# EAGLE library part 8PIN (library Connectors)
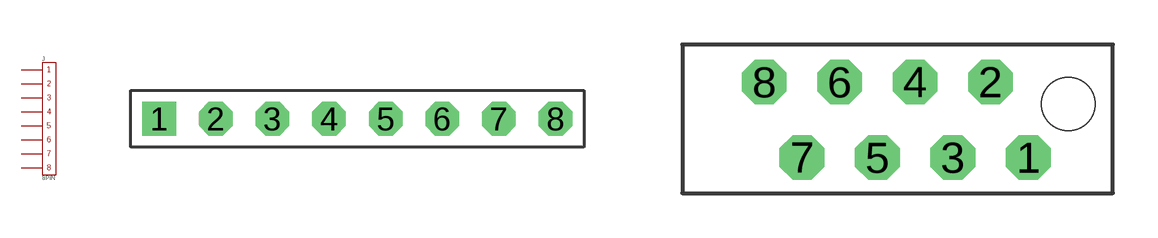
[diagram p2: symbol with the pads of 8PIN_HEADER_PITCH2.54MM_TH; footprints 8PIN_HEADER_PITCH2.54MM_TH, 8PIN_RIBBONCABLE_2ROW_2.54PITCH_TH]

Designator prefix J

## 8PIN_HEADER_PITCH2.54MM_TH  [8PIN_HEADER_PITCH2.54MM_TH]
1  1  pas
2  2  pas
3  3  pas
4  4  pas
5  5  pas
6  6  pas
7  7  pas
8  8  pas

## 8PIN_RIBBONCABLE_PITCH2.54MM_TH  [8PIN_RIBBONCABLE_2ROW_2.54PITCH_TH]
Pads as for 8PIN_HEADER_PITCH2.54MM_TH

## Footprint 8PIN_HEADER_PITCH2.54MM_TH (pad centres in mm)
drill 1 square: 1 -8.89,0
drill 1 octagon: 2 -6.35,0; 3 -3.81,0; 4 -1.27,0; 5 1.27,0; 6 3.81,0; 7 6.35,0; 8 8.89,0

## Footprint 8PIN_RIBBONCABLE_2ROW_2.54PITCH_TH (pad centres in mm)
drill 1 octagon: 1 -1.35,-1.8; 2 -2.62,0.74; 3 -3.89,-1.8; 4 -5.16,0.74; 5 -6.43,-1.8; 6 -7.7,0.74; 7 -8.97,-1.8; 8 -10.24,0.74
hole 1.8 at 0,0